# EAGLE library part GPBS-850L (library ELECTROMECH)
Pushbutton Switch DPDT Standard Through Hole
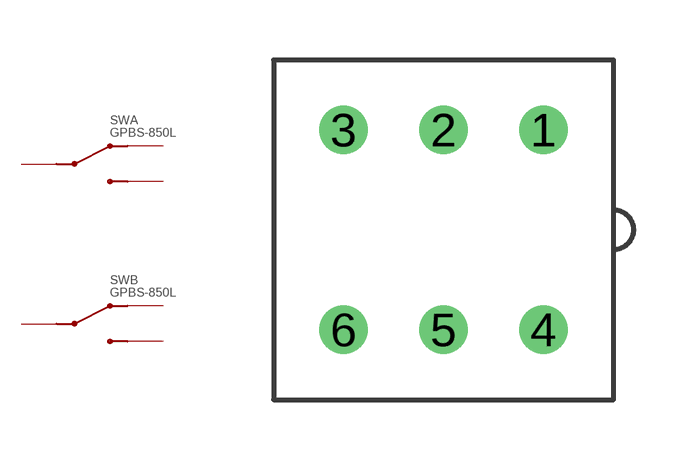
[diagram p3: symbol with the pads of GPBS-850L; footprint GPBS-850L]

Designator prefix SW; gates A=RELAY_CONTACT_SPDT B=RELAY_CONTACT_SPDT

## GPBS-850L (DIGIKEY: CW179-ND; HEIGHT: 14; PRICE_PER: 0.48; VALUE: DPDT PUSH)  [GPBS-850L]
1  A:2
2  A:1
3  A:3
4  B:2
5  B:1
6  B:3

## Footprint GPBS-850L (pad centres in mm)
drill 0.7: 1 2.5,2.5; 2 0,2.5; 3 -2.5,2.5; 4 2.5,-2.5; 5 0,-2.5; 6 -2.5,-2.5